# EAGLE library part MC1489ADG (library On Semiconductor)
Quad Line EIA-232D Receivers
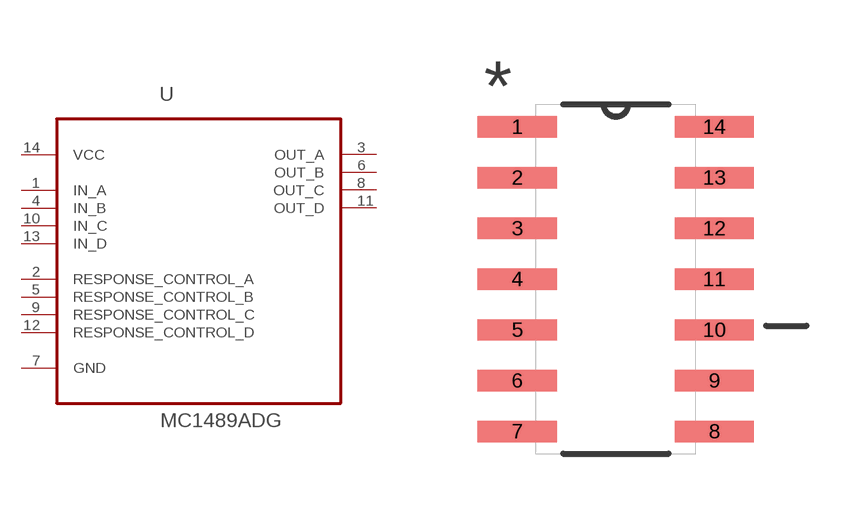
[diagram p312: symbol with the pads of SOIC127P600X175-14N; footprint SOIC127P600X175-14N]

Designator prefix U

## MC1489ADG (MPN: MC1489ADG; OC_FARNELL: 1350100; OC_NEWARK: 42K0556; PACKAGE: SOIC-14; SUPPLIER: ON SEMICONDUCTOR)  [SOIC127P600X175-14N]
1  IN_A  in
2  RESPONSE_CONTROL_A  in
3  OUT_A  out
4  IN_B  in
5  RESPONSE_CONTROL_B  in
6  OUT_B  out
7  GND  pas
8  OUT_C  out
9  RESPONSE_CONTROL_C  in
10  IN_C  in
11  OUT_D  out
12  RESPONSE_CONTROL_D  in
13  IN_D  in
14  VCC  pwr

## Footprint SOIC127P600X175-14N (pad centres in mm)
smd 1.981 x 0.533: 1 -2.464,3.81; 2 -2.464,2.54; 3 -2.464,1.27; 4 -2.464,0; 5 -2.464,-1.27; 6 -2.464,-2.54; 7 -2.464,-3.81; 8 2.464,-3.81; 9 2.464,-2.54; 10 2.464,-1.27; 11 2.464,0; 12 2.464,1.27; 13 2.464,2.54; 14 2.464,3.81